# Altium integrated library Maxim Power Mgt Power Controller.IntLib: 1 symbol
Pins are listed as number, name and electrical type; pins without a type are passive.

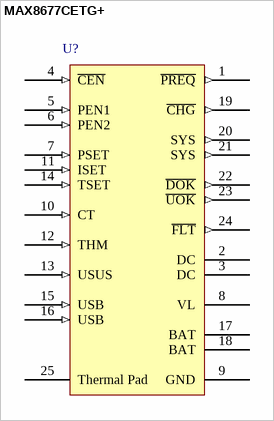
[diagram p0: symbol MAX8677CETG+]

## MAX8677CETG+
designator U?
1.5A Dual-Input USB/AC Adapter Charger and Smart Power Selector; Published: 30-May-2008; DatasheetVersion: Apr-2007; PackageVersion: revG, Sep-2007; PackageReference: T2444-4; Publisher: Altium Limited; PackageDescription: 24-Pin Thin Quad Flat No-Lead 0.5 mm Pitch; ComponentLink1Description: Manufacturer Link; ComponentLink1URL: http://www.maxim-ic.com/; ComponentLink2Description: Datasheet; ComponentLink2URL: http://datasheets.maxim-ic.com/en/ds/MAX8677C.pdf
footprint T2444-4_N (QFN, 24-Leads, Body 4x4mm, Pitch 0.5mm, IPC Medium Density)
footprint T2444-4_L (QFN, 24-Leads, Body 4x4mm, Pitch 0.5mm, IPC High Density)
footprint T2444-4_M (QFN, 24-Leads, Body 4x4mm, Pitch 0.5mm, IPC Low Density)
pins: 1 ~{PREQ} (out), 2 DC (power), 3 DC (power), 4 ~{CEN} (in), 5 PEN1 (in), 6 PEN2 (in), 7 PSET (in), 8 VL (power), 9 GND (power), 10 CT (in), 11 ISET (in), 12 THM (in), 13 USUS (in), 14 TSET (in), 15 USB (in), 16 USB (in), 17 BAT (power), 18 BAT (power), 19 ~{CHG} (out), 20 SYS (out), 21 SYS (out), 22 ~{DOK} (out), 23 ~{UOK} (out), 24 ~{FLT} (out), 25 Thermal Pad